# Altium schematic symbol library 08051C104K4Z2A.SchLib: 1 symbol
Pins are listed as number, name and electrical type; pins without a type are passive.

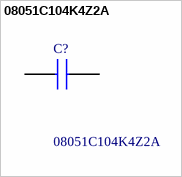
[diagram p0: symbol 08051C104K4Z2A]

## 08051C104K4Z2A
designator C?
AVX - 08051C104K4Z2A - CAP, MLCC, X7R, 100NF, 100V, 0805; Geometry.Height: 1.4mm; Mouser Part Number: 581-08051C104K4Z2A; Mouser Price/Stock: https://www.mouser.com/Search/Refine.aspx?Keyword=581-08051C104K4Z2A; Manufacturer_Name: AVX; Manufacturer_Part_Number: 08051C104K4Z2A; Datasheet Link: https://componentsearchengine.com/Datasheets/1/08051C104K4Z2A.pdf
footprint CAPC2012X140N
pins: 1, 2